# Altium schematic symbol library DI_STABILITRON.SchLib: 1 symbol
Pins are listed as number, name and electrical type; pins without a type are passive.

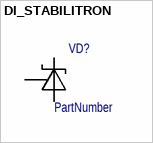
[diagram p0: symbol DI_STABILITRON]

## DI_STABILITRON
designator VD?  (value not drawn)
PartNumber: PartNumber
pins: A, C, REF